# Altium footprint library SJA1110.PcbLib: 1 footprints
Each footprint in its own frame and in the unit in brackets; x right, y up, seen from the top. Pads: shape width x height; smd on the part's side, far side on the other; paste and mask are expansions set on the pad; w line width, h text height; cw(c..) or ccw(c..) is an arc to the next point about the centre after c.
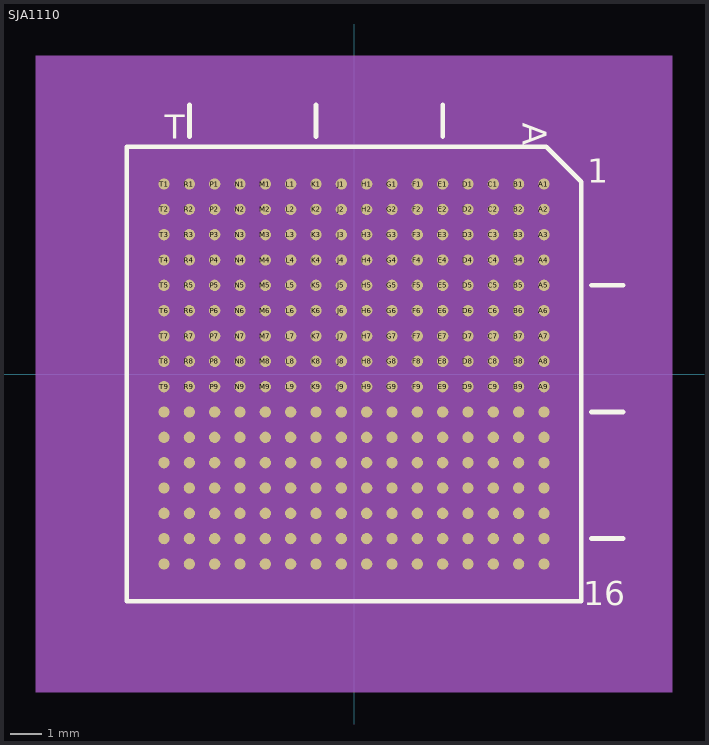
[diagram p0: the footprint, top view; thin cyan lines are the x and y axes]

## SJA1110 [mil] "Multi-Gig Safe and Secure TSN Ethernet Switch with Integrated 100BASE-T1 PHYs"
pads (256):
  round 14 smd: A1(236.22,236.22) A2(236.22,204.72) A3(236.22,173.23) A4(236.22,141.73) A5(236.22,110.24) A6(236.22,78.74) A7(236.22,47.24) A8(236.22,15.75) A9(236.22,-15.75) A10(236.22,-47.24) A11(236.22,-78.74) A12(236.22,-110.24) A13(236.22,-141.73) A14(236.22,-173.23) A15(236.22,-204.72) A16(236.22,-236.22) B1(204.72,236.22) B2(204.72,204.72) B3(204.72,173.23) B4(204.72,141.73) B5(204.72,110.24) B6(204.72,78.74) B7(204.72,47.24) B8(204.72,15.75) B9(204.72,-15.75) B10(204.72,-47.24) B11(204.72,-78.74) B12(204.72,-110.24) B13(204.72,-141.73) B14(204.72,-173.23) B15(204.72,-204.72) B16(204.72,-236.22) C1(173.23,236.22) C2(173.23,204.72) C3(173.23,173.23) C4(173.23,141.73) C5(173.23,110.24) C6(173.23,78.74) C7(173.23,47.24) C8(173.23,15.75) C9(173.23,-15.75) C10(173.23,-47.24) C11(173.23,-78.74) C12(173.23,-110.24) C13(173.23,-141.73) C14(173.23,-173.23) C15(173.23,-204.72) C16(173.23,-236.22) D1(141.73,236.22) D2(141.73,204.72) D3(141.73,173.23) D4(141.73,141.73) D5(141.73,110.24) D6(141.73,78.74) D7(141.73,47.24) D8(141.73,15.75) D9(141.73,-15.75) D10(141.73,-47.24) D11(141.73,-78.74) D12(141.73,-110.24) D13(141.73,-141.73) D14(141.73,-173.23) D15(141.73,-204.72) D16(141.73,-236.22) E1(110.24,236.22) E2(110.24,204.72) E3(110.24,173.23) E4(110.24,141.73) E5(110.24,110.24) E6(110.24,78.74) E7(110.24,47.24) E8(110.24,15.75) E9(110.24,-15.75) E10(110.24,-47.24) E11(110.24,-78.74) E12(110.24,-110.24) E13(110.24,-141.73) E14(110.24,-173.23) E15(110.24,-204.72) E16(110.24,-236.22) F1(78.74,236.22) F2(78.74,204.72) F3(78.74,173.23) F4(78.74,141.73) F5(78.74,110.24) F6(78.74,78.74) F7(78.74,47.24) F8(78.74,15.75) F9(78.74,-15.75) F10(78.74,-47.24) F11(78.74,-78.74) F12(78.74,-110.24) F13(78.74,-141.73) F14(78.74,-173.23) F15(78.74,-204.72) F16(78.74,-236.22) G1(47.24,236.22) G2(47.24,204.72) G3(47.24,173.23) G4(47.24,141.73) G5(47.24,110.24) G6(47.24,78.74) G7(47.24,47.24) G8(47.24,15.75) G9(47.24,-15.75) G10(47.24,-47.24) G11(47.24,-78.74) G12(47.24,-110.24) G13(47.24,-141.73) G14(47.24,-173.23) G15(47.24,-204.72) G16(47.24,-236.22) H1(15.75,236.22) H2(15.75,204.72) H3(15.75,173.23) H4(15.75,141.73) H5(15.75,110.24) H6(15.75,78.74) H7(15.75,47.24) H8(15.75,15.75) H9(15.75,-15.75) H10(15.75,-47.24) H11(15.75,-78.74) H12(15.75,-110.24) H13(15.75,-141.73) H14(15.75,-173.23) H15(15.75,-204.72) H16(15.75,-236.22) J1(-15.75,236.22) J2(-15.75,204.72) J3(-15.75,173.23) J4(-15.75,141.73) J5(-15.75,110.24) J6(-15.75,78.74) J7(-15.75,47.24) J8(-15.75,15.75) J9(-15.75,-15.75) J10(-15.75,-47.24) J11(-15.75,-78.74) J12(-15.75,-110.24) J13(-15.75,-141.73) J14(-15.75,-173.23) J15(-15.75,-204.72) J16(-15.75,-236.22) K1(-47.24,236.22) K2(-47.24,204.72) K3(-47.24,173.23) K4(-47.24,141.73) K5(-47.24,110.24) K6(-47.24,78.74) K7(-47.24,47.24) K8(-47.24,15.75) K9(-47.24,-15.75) K10(-47.24,-47.24) K11(-47.24,-78.74) K12(-47.24,-110.24) K13(-47.24,-141.73) K14(-47.24,-173.23) K15(-47.24,-204.72) K16(-47.24,-236.22) L1(-78.74,236.22) L2(-78.74,204.72) L3(-78.74,173.23) L4(-78.74,141.73) L5(-78.74,110.24) L6(-78.74,78.74) L7(-78.74,47.24) L8(-78.74,15.75) L9(-78.74,-15.75) L10(-78.74,-47.24) L11(-78.74,-78.74) L12(-78.74,-110.24) L13(-78.74,-141.73) L14(-78.74,-173.23) L15(-78.74,-204.72) L16(-78.74,-236.22) M1(-110.24,236.22) M2(-110.24,204.72) M3(-110.24,173.23) M4(-110.24,141.73) M5(-110.24,110.24) M6(-110.24,78.74) M7(-110.24,47.24) M8(-110.24,15.75) M9(-110.24,-15.75) M10(-110.24,-47.24) M11(-110.24,-78.74) M12(-110.24,-110.24) M13(-110.24,-141.73) M14(-110.24,-173.23) M15(-110.24,-204.72) M16(-110.24,-236.22) N1(-141.73,236.22) N2(-141.73,204.72) N3(-141.73,173.23) N4(-141.73,141.73) N5(-141.73,110.24) N6(-141.73,78.74) N7(-141.73,47.24) N8(-141.73,15.75) N9(-141.73,-15.75) N10(-141.73,-47.24) N11(-141.73,-78.74) N12(-141.73,-110.24) N13(-141.73,-141.73) N14(-141.73,-173.23) N15(-141.73,-204.72) N16(-141.73,-236.22) P1(-173.23,236.22) P2(-173.23,204.72) P3(-173.23,173.23) P4(-173.23,141.73) P5(-173.23,110.24) P6(-173.23,78.74) P7(-173.23,47.24) P8(-173.23,15.75) P9(-173.23,-15.75) P10(-173.23,-47.24) P11(-173.23,-78.74) P12(-173.23,-110.24) P13(-173.23,-141.73) P14(-173.23,-173.23) P15(-173.23,-204.72) P16(-173.23,-236.22) R1(-204.72,236.22) R2(-204.72,204.72) R3(-204.72,173.23) R4(-204.72,141.73) R5(-204.72,110.24) R6(-204.72,78.74) R7(-204.72,47.24) R8(-204.72,15.75) R9(-204.72,-15.75) R10(-204.72,-47.24) R11(-204.72,-78.74) R12(-204.72,-110.24) R13(-204.72,-141.73) R14(-204.72,-173.23) R15(-204.72,-204.72) R16(-204.72,-236.22) T1(-236.22,236.22) T2(-236.22,204.72) T3(-236.22,173.23) T4(-236.22,141.73) T5(-236.22,110.24) T6(-236.22,78.74) T7(-236.22,47.24) T8(-236.22,15.75) T9(-236.22,-15.75) T10(-236.22,-47.24) T11(-236.22,-78.74) T12(-236.22,-110.24) T13(-236.22,-141.73) T14(-236.22,-173.23) T15(-236.22,-204.72) T16(-236.22,-236.22)
Top Overlay:
  lines w6: -204.72,295.28 -204.72,334.65 ; -47.24,295.28 -47.24,334.65 ; 110.24,295.28 110.24,334.65 ; 295.28,-204.72 334.65,-204.72 ; 295.28,-47.24 334.65,-47.24 ; 295.28,110.24 334.65,110.24 ; -282.59,-282.59 282.59,-282.59 282.59,239.12 239.12,282.59 -282.59,282.59 -282.59,-282.59
  text ".Designator" at -350,155 h30
  text "A" at 210,312.52 h30
  text "1" at 290,237.52 h30
  text "16" at 285,-287.48 h30
  text "T" at -235,292.52 h30
Mechanical 5:
  pour cut-out: -275.59,275.59 -275.59,-275.59 275.59,-275.59 275.59,275.59
Mechanical 7:
  region: -275.59,275.59 -275.59,-275.59 275.59,-275.59 275.59,275.59
Mechanical 9:
  lines w1: -10,0 10,0 ; 0,-10 0,10
Mechanical 11:
  lines w0.01: -204.72,295.28 -204.72,334.65 ; -47.24,295.28 -47.24,334.65 ; 110.24,295.28 110.24,334.65 ; 295.28,-204.72 334.65,-204.72 ; 295.28,-47.24 334.65,-47.24 ; 295.28,110.24 334.65,110.24 ; -275.59,-275.59 -275.59,275.59 236.22,275.59 275.59,236.22 275.59,-275.59 -275.59,-275.59
  text "A" at 229.33,308.24 h25
  text "1" at 301.59,245.25 h25
  text "16" at 301.6,-234.16 h25
  text "T" at -253.59,327.06 h25
Mechanical 44:
  pour cut-out: -395.59,395.59 -395.59,-395.59 395.59,-395.59 395.59,395.59
Mechanical 46:
  text "D5" at 133.73,110.24 h10
  text "B1" at 196.72,236.22 h10
  text "C9" at 165.23,-15.75 h10
  text "E8" at 102.24,15.75 h10
  text "D8" at 133.73,15.75 h10
  text "C16" at 161.23,-236.22 h10
  text "C15" at 161.23,-204.72 h10
  text "P4" at -181.23,141.73 h10
  text "P6" at -181.23,78.74 h10
  text "N6" at -149.73,78.74 h10
  text "B5" at 196.72,110.24 h10
  text "D10" at 129.73,-47.24 h10
  text "P5" at -181.23,110.24 h10
  text "D6" at 133.73,78.74 h10
  text "B2" at 196.72,204.72 h10
  text "B3" at 196.72,173.23 h10
  text "A4" at 228.22,141.73 h10
  text "B4" at 196.72,141.73 h10
  text "A5" at 228.22,110.24 h10
  text "A2" at 228.22,204.72 h10
  text "D7" at 133.73,47.24 h10
  text "B6" at 196.72,78.74 h10
  text "A6" at 228.22,78.74 h10
  text "B7" at 196.72,47.24 h10
  text "A7" at 228.22,47.24 h10
  text "B8" at 196.72,15.75 h10
  text "A8" at 228.22,15.75 h10
  text "T14" at -248.22,-173.23 h10
  text "P10" at -185.23,-47.24 h10
  text "G16" at 35.24,-236.22 h10
  text "M12" at -122.24,-110.24 h10
  text "P13" at -185.23,-141.73 h10
  text "T9" at -244.22,-15.75 h10
  text "L2" at -86.74,204.72 h10
  text "L1" at -86.74,236.22 h10
  text "T13" at -248.22,-141.73 h10
  text "M13" at -122.24,-141.73 h10
  text "N10" at -153.73,-47.24 h10
  text "H6" at 7.75,78.74 h10
  text "H3" at 7.75,173.23 h10
  text "T7" at -244.22,47.24 h10
  text "H4" at 7.75,141.73 h10
  text "M8" at -118.24,15.75 h10
  text "L3" at -86.74,173.23 h10
  text "N11" at -153.73,-78.74 h10
  text "B16" at 192.72,-236.22 h10
  text "C3" at 165.23,173.23 h10
  text "C14" at 161.23,-173.23 h10
  text "E3" at 102.24,173.23 h10
  text "F1" at 70.74,236.22 h10
  text "F8" at 70.74,15.75 h10
  text "F9" at 70.74,-15.75 h10
  text "G1" at 39.24,236.22 h10
  text "G11" at 35.24,-78.74 h10
  text "H1" at 7.75,236.22 h10
  text "H11" at 3.75,-78.74 h10
  text "J6" at -23.75,78.74 h10
  text "J11" at -27.75,-78.74 h10
  text "M6" at -118.24,78.74 h10
  text "M7" at -118.24,47.24 h10
  text "N9" at -149.73,-15.75 h10
  text "C8" at 165.23,15.75 h10
  text "P12" at -185.23,-110.24 h10
  text "N12" at -153.73,-110.24 h10
  text "M10" at -122.24,-47.24 h10
  text "T11" at -248.22,-78.74 h10
  text "D1" at 133.73,236.22 h10
  text "N8" at -149.73,15.75 h10
  text "T12" at -248.22,-110.24 h10
  text "B15" at 192.72,-204.72 h10
  text "G5" at 39.24,110.24 h10
  text "T10" at -248.22,-47.24 h10
  text "H5" at 7.75,110.24 h10
  text "P8" at -181.23,15.75 h10
  text "R4" at -212.72,141.73 h10
  text "R6" at -212.72,78.74 h10
  text "R8" at -212.72,15.75 h10
  text "R10" at -216.72,-47.24 h10
  text "R12" at -216.72,-110.24 h10
  text "R14" at -216.72,-173.23 h10
  text "T6" at -244.22,78.74 h10
  text "C2" at 165.23,204.72 h10
  text "E2" at 102.24,204.72 h10
  text "H14" at 3.75,-173.23 h10
  text "M9" at -118.24,-15.75 h10
  text "N13" at -153.73,-141.73 h10
  text "P11" at -185.23,-78.74 h10
  text "T4" at -244.22,141.73 h10
  text "L12" at -90.74,-110.24 h10
  text "E7" at 102.24,47.24 h10
  text "K3" at -55.24,173.23 h10
  text "H15" at 3.75,-204.72 h10
  text "C1" at 165.23,236.22 h10
  text "G14" at 35.24,-173.23 h10
  text "N7" at -149.73,47.24 h10
  text "E6" at 102.24,78.74 h10
  text "E11" at 98.24,-78.74 h10
  text "F6" at 70.74,78.74 h10
  text "F11" at 66.74,-78.74 h10
  text "K6" at -55.24,78.74 h10
  text "K11" at -59.24,-78.74 h10
  text "L6" at -86.74,78.74 h10
  text "L11" at -90.74,-78.74 h10
  text "M11" at -122.24,-78.74 h10
  text "P7" at -181.23,47.24 h10
  text "T5" at -244.22,110.24 h10
  text "G15" at 35.24,-204.72 h10
  text "T3" at -244.22,173.23 h10
  text "J15" at -27.75,-204.72 h10
  text "N5" at -149.73,110.24 h10
  text "T8" at -244.22,15.75 h10
  text "G4" at 39.24,141.73 h10
  text "L13" at -90.74,-141.73 h10
  text "J12" at -27.75,-110.24 h10
  text "K1" at -55.24,236.22 h10
  text "K12" at -59.24,-110.24 h10
  text "K13" at -59.24,-141.73 h10
  text "D4" at 133.73,141.73 h10
  text "E5" at 102.24,110.24 h10
  text "E4" at 102.24,141.73 h10
  text "K2" at -55.24,204.72 h10
  text "F4" at 70.74,141.73 h10
  text "F5" at 70.74,110.24 h10
  text "D12" at 129.73,-110.24 h10
  text "H16" at 3.75,-236.22 h10
  text "H2" at 7.75,204.72 h10
  text "G2" at 39.24,204.72 h10
  text "N4" at -149.73,141.73 h10
  text "B13" at 192.72,-141.73 h10
  text "A13" at 224.22,-141.73 h10
  text "B14" at 192.72,-173.23 h10
  text "F13" at 66.74,-141.73 h10
  text "A14" at 224.22,-173.23 h10
  text "E12" at 98.24,-110.24 h10
  text "A12" at 224.22,-110.24 h10
  text "D13" at 129.73,-141.73 h10
  text "B12" at 192.72,-110.24 h10
  text "D11" at 129.73,-78.74 h10
  text "C5" at 165.23,110.24 h10
  text "C7" at 165.23,47.24 h10
  text "C10" at 161.23,-47.24 h10
  text "C12" at 161.23,-110.24 h10
  text "B9" at 196.72,-15.75 h10
  text "A10" at 224.22,-47.24 h10
  text "F12" at 66.74,-110.24 h10
  text "B10" at 192.72,-47.24 h10
  text "E13" at 98.24,-141.73 h10
  text "A11" at 224.22,-78.74 h10
  text "B11" at 192.72,-78.74 h10
  text "A9" at 228.22,-15.75 h10
  text "A3" at 228.22,173.23 h10
  text "F2" at 70.74,204.72 h10
  text "J5" at -23.75,110.24 h10
  text "K5" at -55.24,110.24 h10
  text "L4" at -86.74,141.73 h10
  text "M4" at -118.24,141.73 h10
  text "L5" at -86.74,110.24 h10
  text "M5" at -118.24,110.24 h10
  text "D9" at 133.73,-15.75 h10
  text "E9" at 102.24,-15.75 h10
  text "E10" at 98.24,-47.24 h10
  text "J4" at -23.75,141.73 h10
  text "K4" at -55.24,141.73 h10
  text "D15" at 129.73,-204.72 h10
  text "E15" at 98.24,-204.72 h10
  text "P15" at -185.23,-204.72 h10
  text "P16" at -185.23,-236.22 h10
  text "N2" at -149.73,204.72 h10
  text "N1" at -149.73,236.22 h10
  text "L15" at -90.74,-204.72 h10
  text "L16" at -90.74,-236.22 h10
  text "G13" at 35.24,-141.73 h10
  text "G12" at 35.24,-110.24 h10
  text "H12" at 3.75,-110.24 h10
  text "H13" at 3.75,-141.73 h10
  text "J13" at -27.75,-141.73 h10
  text "A1" at 228.22,236.22 h10
  text "A15" at 224.22,-204.72 h10
  text "A16" at 224.22,-236.22 h10
  text "C4" at 165.23,141.73 h10
  text "C6" at 165.23,78.74 h10
  text "C11" at 161.23,-78.74 h10
  text "C13" at 161.23,-141.73 h10
  text "D2" at 133.73,204.72 h10
  text "D3" at 133.73,173.23 h10
  text "D14" at 129.73,-173.23 h10
  text "D16" at 129.73,-236.22 h10
  text "E1" at 102.24,236.22 h10
  text "E14" at 98.24,-173.23 h10
  text "E16" at 98.24,-236.22 h10
  text "F3" at 70.74,173.23 h10
  text "F7" at 70.74,47.24 h10
  text "F10" at 66.74,-47.24 h10
  text "F14" at 66.74,-173.23 h10
  text "F15" at 66.74,-204.72 h10
  text "F16" at 66.74,-236.22 h10
  text "G3" at 39.24,173.23 h10
  text "G6" at 39.24,78.74 h10
  text "G7" at 39.24,47.24 h10
  text "G8" at 39.24,15.75 h10
  text "G9" at 39.24,-15.75 h10
  text "G10" at 35.24,-47.24 h10
  text "H7" at 7.75,47.24 h10
  text "H8" at 7.75,15.75 h10
  text "H9" at 7.75,-15.75 h10
  text "H10" at 3.75,-47.24 h10
  text "J1" at -23.75,236.22 h10
  text "J2" at -23.75,204.72 h10
  text "J3" at -23.75,173.23 h10
  text "J7" at -23.75,47.24 h10
  text "J8" at -23.75,15.75 h10
  text "J9" at -23.75,-15.75 h10
  text "J10" at -27.75,-47.24 h10
  text "J14" at -27.75,-173.23 h10
  text "J16" at -27.75,-236.22 h10
  text "K7" at -55.24,47.24 h10
  text "K8" at -55.24,15.75 h10
  text "K9" at -55.24,-15.75 h10
  text "K10" at -59.24,-47.24 h10
  text "K14" at -59.24,-173.23 h10
  text "K15" at -59.24,-204.72 h10
  text "K16" at -59.24,-236.22 h10
  text "L7" at -86.74,47.24 h10
  text "L8" at -86.74,15.75 h10
  text "L9" at -86.74,-15.75 h10
  text "L10" at -90.74,-47.24 h10
  text "L14" at -90.74,-173.23 h10
  text "M1" at -118.24,236.22 h10
  text "M2" at -118.24,204.72 h10
  text "M3" at -118.24,173.23 h10
  text "M14" at -122.24,-173.23 h10
  text "M15" at -122.24,-204.72 h10
  text "M16" at -122.24,-236.22 h10
  text "N3" at -149.73,173.23 h10
  text "N14" at -153.73,-173.23 h10
  text "N15" at -153.73,-204.72 h10
  text "N16" at -153.73,-236.22 h10
  text "P1" at -181.23,236.22 h10
  text "P2" at -181.23,204.72 h10
  text "P3" at -181.23,173.23 h10
  text "P9" at -181.23,-15.75 h10
  text "P14" at -185.23,-173.23 h10
  text "R1" at -212.72,236.22 h10
  text "R2" at -212.72,204.72 h10
  text "R3" at -212.72,173.23 h10
  text "R5" at -212.72,110.24 h10
  text "R7" at -212.72,47.24 h10
  text "R9" at -212.72,-15.75 h10
  text "R11" at -216.72,-78.74 h10
  text "R13" at -216.72,-141.73 h10
  text "R15" at -216.72,-204.72 h10
  text "R16" at -216.72,-236.22 h10
  text "T1" at -244.22,236.22 h10
  text "T2" at -244.22,204.72 h10
  text "T15" at -248.22,-204.72 h10
  text "T16" at -248.22,-236.22 h10
Mechanical 63:
  text "PADS C014S" at -449.37,162.95 h30
  text "ALL DIMS IN MM" at -494.37,182.95 h30
  text "BGA256_0P8_14X14MM" at 430.63,252.95 h30
3D body "SJA1110.STEP": height 54.54, standoff -14.75, extent -279.37,-277.05 275.75,278.07